# Altium schematic symbol library STM32.SchLib: 23 symbols
Pins are listed as number, name and electrical type; pins without a type are passive.

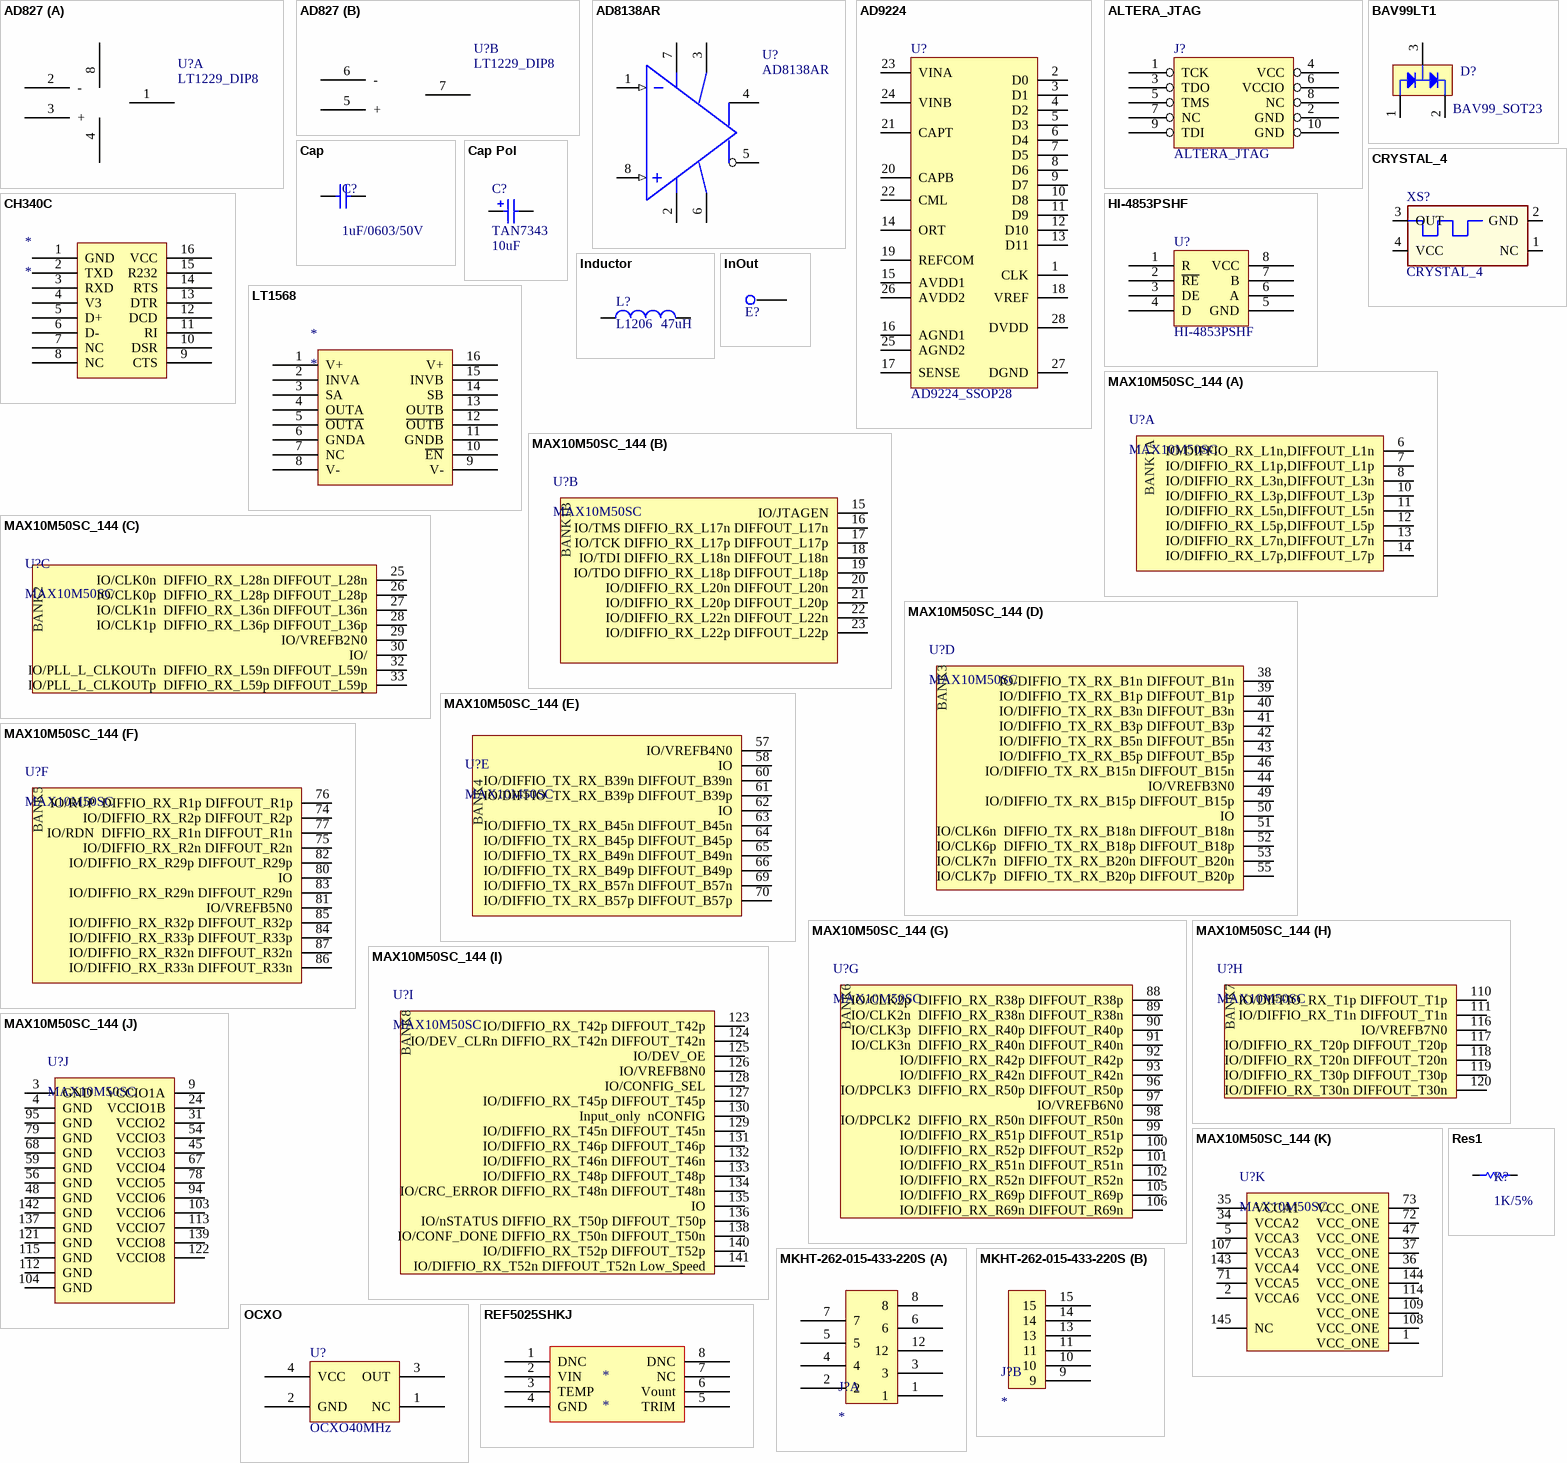
[diagram p0: symbols AD827 to Res1]

## AD827
designator U?, comment LT1229_DIP8
footprint SO-8
part A pins: 1 OUTA, 2 -, 3 +, 4, 8
part B pins: 5 +, 6 -, 7 OUTB

## AD8138AR
designator U?
footprint SO-8
pins: 1 Din- (in), 2 Vcom, 3 V+ (power), 4 OUT+, 5 OUT-, 6 V- (power), 7 NC, 8 Din+ (in)

## AD9224
designator U?, comment AD9224_SSOP28
footprint TSSOP28
pins: 1 CLK, 2 D0, 3 D1, 4 D2, 5 D3, 6 D4, 7 D5, 8 D6, 9 D7, 10 D8, 11 D9, 12 D10, 13 D11, 14 ORT, 15 AVDD1, 16 AGND1, 17 SENSE, 18 VREF, 19 REFCOM, 20 CAPB, 21 CAPT, 22 CML, 23 VINA, 24 VINB, 25 AGND2, 26 AVDD2, 27 DGND, 28 DVDD

## ALTERA_JTAG
designator J?
footprint JTAG_DIP
footprint JTAG_Surface
pins: 1 TCK, 2 GND, 3 TDO, 4 VCC, 5 TMS, 6 VCCIO, 7 NC, 8 NC, 9 TDI, 10 GND
2 alternate drawings of the same symbol

## BAV99LT1
designator D?, comment BAV99_SOT23
footprint SOT23-3N
pins: 1, 2, 3

## Cap
designator C?, comment 1uF/0603/50V
Capacitor; Value: 100pF; Published: 8-Jun-2000; LatestRevisionDate: 17-Jul-2002; LatestRevisionNote: Re-released for DXP Platform.; PackageReference: RAD-0.3; Publisher: Altium Limited; PackageDescription: Radial Cap, Thru-Hole; 2 Leads; 0.3 in Pin Spacing
footprint 0805C
footprint 1206C
pins: 1, 2

## Cap Pol
designator C?, comment TAN7343  value 10uF
Polarized Capacitor (Radial)
footprint 1206C
footprint 7343C
pins: 1, 2
1 alternate drawing of the same symbol

## CH340C
designator *
footprint CH340C
pins: 1 GND, 2 TXD, 3 RXD, 4 V3 (power), 5 D+, 6 D-, 7 NC, 8 NC, 9 CTS, 10 DSR, 11 RI, 12 DCD, 13 DTR, 14 RTS, 15 R232, 16 VCC

## CRYSTAL_4
designator XS?
footprint CRYSTAL_HALF
pins: 1 NC, 2 GND, 3 OUT, 4 VCC

## HI-4853PSHF
designator U?
footprint SOIC-8N
pins: 1 R, 2 ~{RE}, 3 DE, 4 D, 5 GND, 6 A, 7 B, 8 VCC

## Inductor
designator L?, comment L1206  value 47uH
Inductor
footprint 1206C
pins: 1, 2

## InOut
designator E?  (value not drawn)
footprint TERMPOWER
pins: 1 NC
2 alternate drawings of the same symbol

## LT1568
designator *
footprint SSOP16
pins: 1 V+, 2 INVA, 3 SA, 4 OUTA, 5 ~{OUTA}, 6 GNDA, 7 NC, 8 V-, 9 V-, 10 ~{EN}, 11 GNDB, 12 ~{OUTB}, 13 OUTB, 14 SB, 15 INVB, 16 V+

## MAX10M50SC_144
designator U?, comment MAX10M50SC
footprint max10M50sc_Quad144
part A pins: 6 IO/DIFFIO_RX_L1n,DIFFOUT_L1n, 7 IO/DIFFIO_RX_L1p,DIFFOUT_L1p, 8 IO/DIFFIO_RX_L3n,DIFFOUT_L3n, 10 IO/DIFFIO_RX_L3p,DIFFOUT_L3p, 11 IO/DIFFIO_RX_L5n,DIFFOUT_L5n, 12 IO/DIFFIO_RX_L5p,DIFFOUT_L5p, 13 IO/DIFFIO_RX_L7n,DIFFOUT_L7n, 14 IO/DIFFIO_RX_L7p,DIFFOUT_L7p
part B pins: 15 IO/JTAGEN, 16 IO/TMS DIFFIO_RX_L17n DIFFOUT_L17n, 17 IO/TCK DIFFIO_RX_L17p DIFFOUT_L17p, 18 IO/TDI DIFFIO_RX_L18n DIFFOUT_L18n, 19 IO/TDO DIFFIO_RX_L18p DIFFOUT_L18p, 20 IO/DIFFIO_RX_L20n DIFFOUT_L20n, 21 IO/DIFFIO_RX_L20p DIFFOUT_L20p, 22 IO/DIFFIO_RX_L22n DIFFOUT_L22n, 23 IO/DIFFIO_RX_L22p DIFFOUT_L22p
part C pins: 25 IO/CLK0n  DIFFIO_RX_L28n DIFFOUT_L28n, 26 IO/CLK0p  DIFFIO_RX_L28p DIFFOUT_L28p, 27 IO/CLK1n  DIFFIO_RX_L36n DIFFOUT_L36n, 28 IO/CLK1p  DIFFIO_RX_L36p DIFFOUT_L36p, 29 IO/VREFB2N0, 30 IO/, 32 IO/PLL_L_CLKOUTn  DIFFIO_RX_L59n DIFFOUT_L59n, 33 IO/PLL_L_CLKOUTp  DIFFIO_RX_L59p DIFFOUT_L59p
part D pins: 38 IO/DIFFIO_TX_RX_B1n DIFFOUT_B1n, 39 IO/DIFFIO_TX_RX_B1p DIFFOUT_B1p, 40 IO/DIFFIO_TX_RX_B3n DIFFOUT_B3n, 41 IO/DIFFIO_TX_RX_B3p DIFFOUT_B3p, 42 IO/DIFFIO_TX_RX_B5n DIFFOUT_B5n, 43 IO/DIFFIO_TX_RX_B5p DIFFOUT_B5p, 44 IO/VREFB3N0, 46 IO/DIFFIO_TX_RX_B15n DIFFOUT_B15n, 49 IO/DIFFIO_TX_RX_B15p DIFFOUT_B15p, 50 IO, 51 IO/CLK6n  DIFFIO_TX_RX_B18n DIFFOUT_B18n, 52 IO/CLK6p  DIFFIO_TX_RX_B18p DIFFOUT_B18p, 53 IO/CLK7n  DIFFIO_TX_RX_B20n DIFFOUT_B20n, 55 IO/CLK7p  DIFFIO_TX_RX_B20p DIFFOUT_B20p
part E pins: 57 IO/VREFB4N0, 58 IO, 60 IO/DIFFIO_TX_RX_B39n DIFFOUT_B39n, 61 IO/DIFFIO_TX_RX_B39p DIFFOUT_B39p, 62 IO, 63 IO/DIFFIO_TX_RX_B45n DIFFOUT_B45n, 64 IO/DIFFIO_TX_RX_B45p DIFFOUT_B45p, 65 IO/DIFFIO_TX_RX_B49n DIFFOUT_B49n, 66 IO/DIFFIO_TX_RX_B49p DIFFOUT_B49p, 69 IO/DIFFIO_TX_RX_B57n DIFFOUT_B57n, 70 IO/DIFFIO_TX_RX_B57p DIFFOUT_B57p
part F pins: 74 IO/DIFFIO_RX_R2p DIFFOUT_R2p, 75 IO/DIFFIO_RX_R2n DIFFOUT_R2n, 76 IO/RUP  DIFFIO_RX_R1p DIFFOUT_R1p, 77 IO/RDN  DIFFIO_RX_R1n DIFFOUT_R1n, 80 IO, 81 IO/VREFB5N0, 82 IO/DIFFIO_RX_R29p DIFFOUT_R29p, 83 IO/DIFFIO_RX_R29n DIFFOUT_R29n, 84 IO/DIFFIO_RX_R33p DIFFOUT_R33p, 85 IO/DIFFIO_RX_R32p DIFFOUT_R32p, 86 IO/DIFFIO_RX_R33n DIFFOUT_R33n, 87 IO/DIFFIO_RX_R32n DIFFOUT_R32n
part G pins: 88 IO/CLK2p  DIFFIO_RX_R38p DIFFOUT_R38p, 89 IO/CLK2n  DIFFIO_RX_R38n DIFFOUT_R38n, 90 IO/CLK3p  DIFFIO_RX_R40p DIFFOUT_R40p, 91 IO/CLK3n  DIFFIO_RX_R40n DIFFOUT_R40n, 92 IO/DIFFIO_RX_R42p DIFFOUT_R42p, 93 IO/DIFFIO_RX_R42n DIFFOUT_R42n, 96 IO/DPCLK3  DIFFIO_RX_R50p DIFFOUT_R50p, 97 IO/VREFB6N0, 98 IO/DPCLK2  DIFFIO_RX_R50n DIFFOUT_R50n, 99 IO/DIFFIO_RX_R51p DIFFOUT_R51p, 100 IO/DIFFIO_RX_R52p DIFFOUT_R52p, 101 IO/DIFFIO_RX_R51n DIFFOUT_R51n, 102 IO/DIFFIO_RX_R52n DIFFOUT_R52n, 105 IO/DIFFIO_RX_R69p DIFFOUT_R69p, 106 IO/DIFFIO_RX_R69n DIFFOUT_R69n
part H pins: 110 IO/DIFFIO_RX_T1p DIFFOUT_T1p, 111 IO/DIFFIO_RX_T1n DIFFOUT_T1n, 116 IO/VREFB7N0, 117 IO/DIFFIO_RX_T20p DIFFOUT_T20p, 118 IO/DIFFIO_RX_T20n DIFFOUT_T20n, 119 IO/DIFFIO_RX_T30p DIFFOUT_T30p, 120 IO/DIFFIO_RX_T30n DIFFOUT_T30n
part I pins: 123 IO/DIFFIO_RX_T42p DIFFOUT_T42p, 124 IO/DEV_CLRn DIFFIO_RX_T42n DIFFOUT_T42n, 125 IO/DEV_OE, 126 IO/VREFB8N0, 127 IO/DIFFIO_RX_T45p DIFFOUT_T45p, 128 IO/CONFIG_SEL, 129 IO/DIFFIO_RX_T45n DIFFOUT_T45n, 130 Input_only  nCONFIG, 131 IO/DIFFIO_RX_T46p DIFFOUT_T46p, 132 IO/DIFFIO_RX_T46n DIFFOUT_T46n, 133 IO/DIFFIO_RX_T48p DIFFOUT_T48p, 134 IO/CRC_ERROR DIFFIO_RX_T48n DIFFOUT_T48n, 135 IO, 136 IO/nSTATUS DIFFIO_RX_T50p DIFFOUT_T50p, 138 IO/CONF_DONE DIFFIO_RX_T50n DIFFOUT_T50n, 140 IO/DIFFIO_RX_T52p DIFFOUT_T52p, 141 IO/DIFFIO_RX_T52n DIFFOUT_T52n Low_Speed
part J pins: 3 GND, 4 GND, 9 VCCIO1A, 24 VCCIO1B, 31 VCCIO2, 45 VCCIO3, 48 GND, 54 VCCIO3, 56 GND, 59 GND, 67 VCCIO4, 68 GND, 78 VCCIO5, 79 GND, 94 VCCIO6, 95 GND, 103 VCCIO6, 104 GND, 112 GND, 113 VCCIO7, 115 GND, 121 GND, 122 VCCIO8, 137 GND, 139 VCCIO8, 142 GND
part K pins: 1 VCC_ONE, 2 VCCA6, 5 VCCA3, 34 VCCA2, 35 VCCA1, 36 VCC_ONE, 37 VCC_ONE, 47 VCC_ONE, 71 VCCA5, 72 VCC_ONE, 73 VCC_ONE, 107 VCCA3, 108 VCC_ONE, 109 VCC_ONE, 114 VCC_ONE, 143 VCCA4, 144 VCC_ONE, 145 NC
part A text: BANK1A
part B text: BANK1B
part C text: BANK2
part D text: BANK3
part E text: BANK4
part F text: BANK5
part G text: BANK6
part H text: BANK7
part I text: BANK8

## MKHT-262-015-433-220S
designator J?
footprint MKHT-262-015-433-220S
part A pins: 1, 2, 3, 4, 5, 6, 7, 8, 12
part B pins: 9, 10, 11, 13, 14, 15

## OCXO
designator U?, comment OCXO40MHz
footprint OCX1
pins: 1 NC, 2 GND, 3 OUT, 4 VCC

## REF5025SHKJ
designator *
footprint SO8-HKJ
pins: 1 DNC, 2 VIN, 3 TEMP, 4 GND, 5 TRIM, 6 Vount, 7 NC, 8 DNC
1 alternate drawing of the same symbol

## Res1
designator R?, comment 1K/5%
Resistor; Value: 1K; Published: 8-Jun-2000; LatestRevisionDate: 17-Jul-2002; LatestRevisionNote: Re-released for DXP Platform.; PackageReference: AXIAL-0.3; Publisher: Altium Limited; PackageDescription: Axial Device, Thru-Hole; 2 Leads; 0.3 in Pin Spacing
footprint 0805R
pins: 1, 2

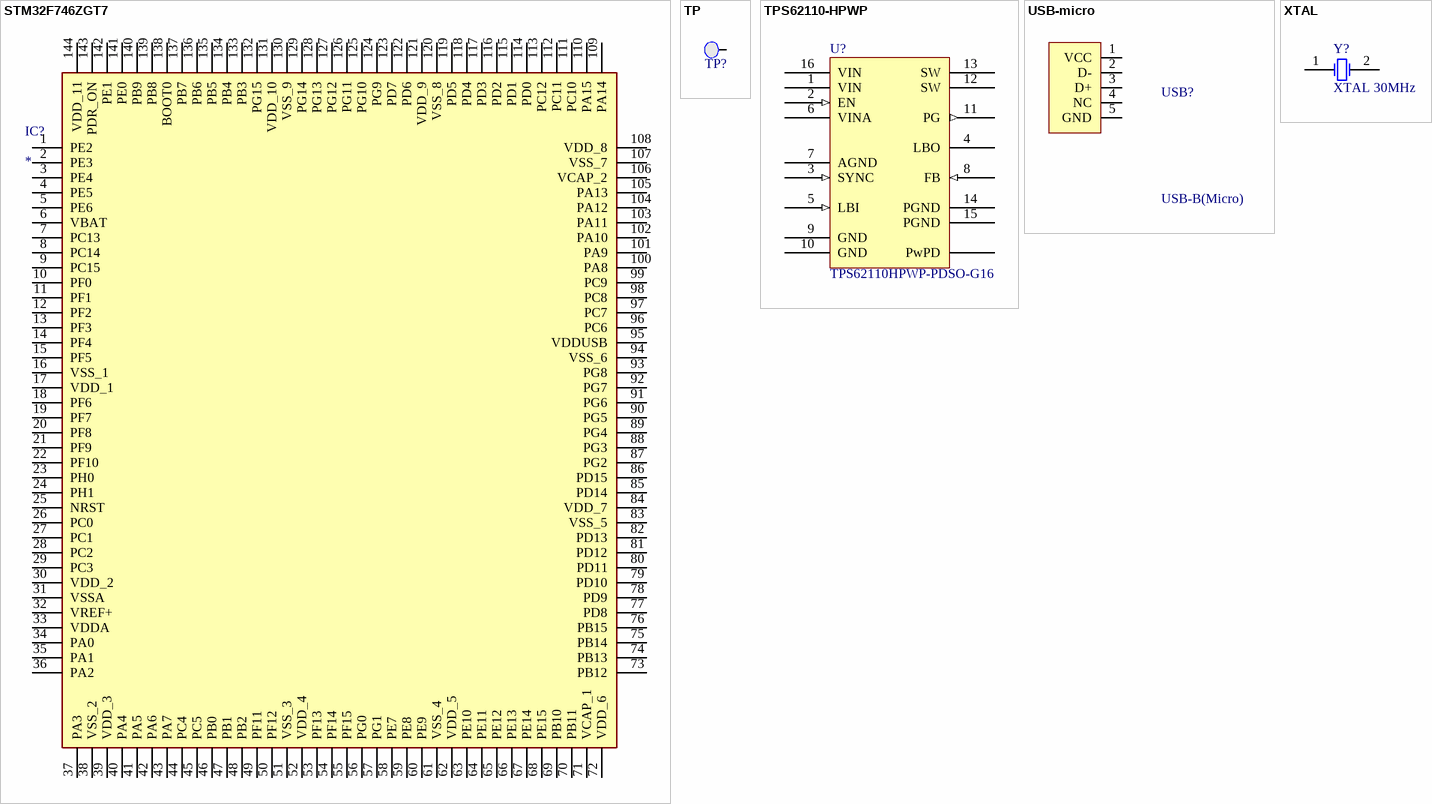
[diagram p1: symbols STM32F746ZGT7 to XTAL]

## STM32F746ZGT7
designator IC?
Integrated Circuit; Manufacturer_Name: STMicroelectronics; Manufacturer_Part_Number: STM32F746ZGT7; Datasheet Link: http://www.st.com/content/ccc/resource/technical/document/datasheet/96/ed/61/9b/e0/6c/45/0b/DM00166116.pdf/files/DM00166116.pdf/jcr:content/translations/en.DM00166116.pdf; Height: 1.6mm; Mouser Part Number: 511-STM32F746ZGT7; Mouser Price/Stock: https://www.mouser.co.uk/ProductDetail/STMicroelectronics/STM32F746ZGT7?qs=BA62vJVifGozpDSWhcdUmw%3D%3D
footprint QFP50P2200X2200X160-144N
pins: 1 PE2, 2 PE3, 3 PE4, 4 PE5, 5 PE6, 6 VBAT, 7 PC13, 8 PC14, 9 PC15, 10 PF0, 11 PF1, 12 PF2, 13 PF3, 14 PF4, 15 PF5, 16 VSS_1, 17 VDD_1, 18 PF6, 19 PF7, 20 PF8, 21 PF9, 22 PF10, 23 PH0, 24 PH1, 25 NRST, 26 PC0, 27 PC1, 28 PC2, 29 PC3, 30 VDD_2, 31 VSSA, 32 VREF+, 33 VDDA, 34 PA0, 35 PA1, 36 PA2, 37 PA3, 38 VSS_2, 39 VDD_3, 40 PA4, 41 PA5, 42 PA6, 43 PA7, 44 PC4, 45 PC5, 46 PB0, 47 PB1, 48 PB2, 49 PF11, 50 PF12, 51 VSS_3, 52 VDD_4, 53 PF13, 54 PF14, 55 PF15, 56 PG0, 57 PG1, 58 PE7, 59 PE8, 60 PE9, 61 VSS_4, 62 VDD_5, 63 PE10, 64 PE11, 65 PE12, 66 PE13, 67 PE14, 68 PE15, 69 PB10, 70 PB11, 71 VCAP_1, 72 VDD_6, 73 PB12, 74 PB13, 75 PB14, 76 PB15, 77 PD8, 78 PD9, 79 PD10, 80 PD11, 81 PD12, 82 PD13, 83 VSS_5, 84 VDD_7, 85 PD14, 86 PD15, 87 PG2, 88 PG3, 89 PG4, 90 PG5, 91 PG6, 92 PG7, 93 PG8, 94 VSS_6, 95 VDDUSB, 96 PC6, 97 PC7, 98 PC8, 99 PC9, 100 PA8, 101 PA9, 102 PA10, 103 PA11, 104 PA12, 105 PA13, 106 VCAP_2, 107 VSS_7, 108 VDD_8, 109 PA14, 110 PA15, 111 PC10, 112 PC11, 113 PC12, 114 PD0, 115 PD1, 116 PD2, 117 PD3, 118 PD4, 119 PD5, 120 VSS_8, 121 VDD_9, 122 PD6, 123 PD7, 124 PG9, 125 PG10, 126 PG11, 127 PG12, 128 PG13, 129 PG14, 130 VSS_9, 131 VDD_10, 132 PG15, 133 PB3, 134 PB4, 135 PB5, 136 PB6, 137 PB7, 138 BOOT0, 139 PB8, 140 PB9, 141 PE0, 142 PE1, 143 PDR_ON, 144 VDD_11

## TP
designator TP?  (value not drawn)
footprint TPA
pins: 1 TP

## TPS62110-HPWP
designator U?, comment TPS62110HPWP-PDSO-G16
Part Number: Y20033002; 安装形式: SMT; 产品外形尺寸<高>: 1.2mm; 产品外形尺寸<长>: 6.6mm; 产品外形尺寸<宽>: 5.1mm; 引脚数目: 16; 湿敏等级（回流焊峰值）: MSL2(260C); 描述: TI;TPS62110-HPWP;175℃;HTSSOP 16PINS;MSL2(260C); id: wt.part.WTPartMaster:8901760; folder: /Default/电源及电源管理/TPS62110HPWP; 主要参数: 17-V, 1.5-A, SYNCHRONOUS STEP-DOWN CONVERTER; 制造商型号: TPS62110-HPWP; state: APPROVED; parent: 13; Library Path 2: 0; Library Ref: TPS62110-HPWP; Footprint Path: 0; HelpURL: \\10.185.226.160\altium_center_db\DATASHEET\TI TPS62110-HT.pdf; Footprint Ref: 0; Library Path: TPS62110-HT.SchLib; pname: TPS62110-HPWP; Library Ref 2: 0; Footprint Path 2: 0; Footprint Ref 2: 0; Footprint Path 3: 0; Footprint Ref 3: 0
footprint PWP16
pins: 1 VIN (power), 2 EN (in), 3 SYNC (in), 4 LBO, 5 LBI (in), 6 VINA (power), 7 AGND (power), 8 FB (in), 9 GND, 10 GND, 11 PG (out), 12 SW, 13 SW, 14 PGND, 15 PGND, 16 VIN (power), PwPD

## USB-micro
designator USB?, comment USB-B(Micro)
footprint MICRO-USB-SMD_5P-P0.65-H-F_C10418
pins: 1 VCC, 2 D-, 3 D+, 4 NC, 5 GND

## XTAL
designator Y?, comment XTAL 30MHz
Crystal Oscillator; Published: 8-Jun-2000; LatestRevisionDate: 17-Jul-2002; LatestRevisionNote: Re-released for DXP Platform.; PackageReference: R38; Publisher: Altium Limited
footprint NX3225GD8MHZSTDCRA3
pins: 1 OSC1, 2 OSC2